# Altium footprint library Kingst51.PcbLib: 22 footprints (part 2 of 2)
Each footprint in its own frame and in the unit in brackets; x right, y up, seen from the top. Pads: shape width x height; smd on the part's side, far side on the other; paste and mask are expansions set on the pad; w line width, h text height; cw(c..) or ccw(c..) is an arc to the next point about the centre after c.
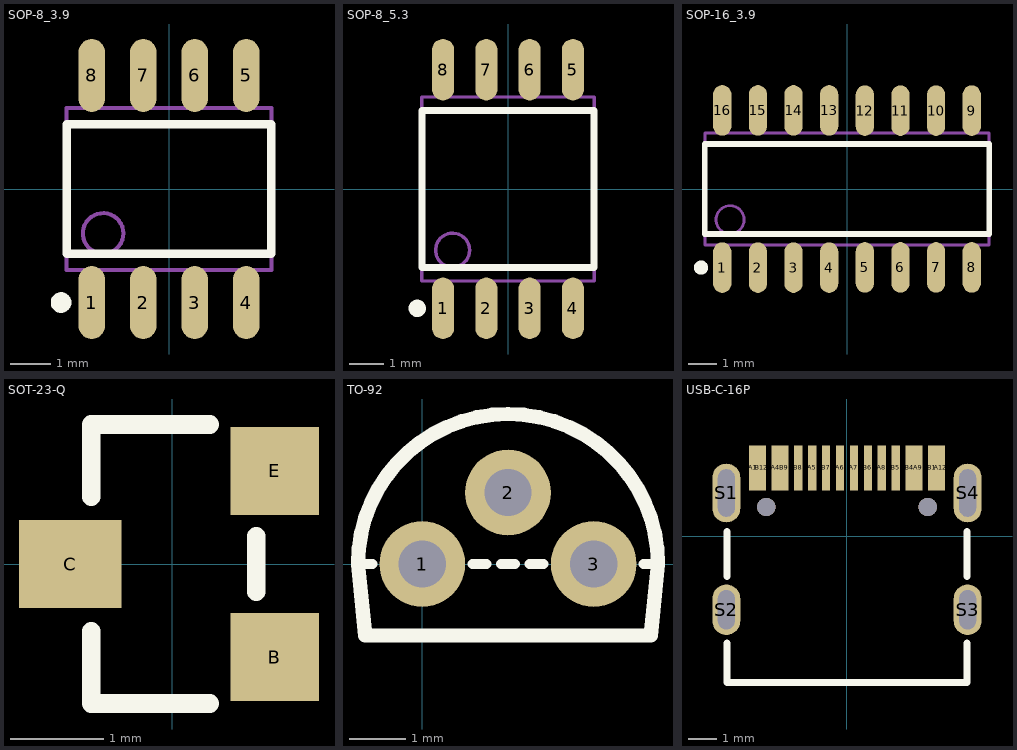
[diagram p1: the footprints below, top view; thin cyan lines are the x and y axes]

## SOP-8_3.9 [mm]
pads (8):
  oval 0.65x1.8 smd mask+0.025: 1(-1.905,-2.8) 2(-0.635,-2.8) 3(0.635,-2.8) 4(1.905,-2.8) 5(1.905,2.8) 6(0.635,2.8) 7(-0.635,2.8) 8(-1.905,2.8)
Top Overlay:
  circle w0.254: c-2.662,-2.8 r0.127
  lines w0.203: -2.525,-1.6 2.525,-1.6 2.525,1.6 -2.525,1.6 -2.525,-1.6
Mechanical 13:
  circle w0.1: c-1.625,-1.095 r0.5
  lines w0.1: -2.525,-1.995 2.525,-1.995 2.525,1.995 -2.525,1.995 -2.525,-1.995
3D body: height 1.75, standoff 0, extent -2.5,-3.1 2.5,3.1

## SOP-8_5.3 [mm]
pads (8):
  oval 0.65x1.8 smd mask+0.025: 1(-1.905,-3.5) 2(-0.635,-3.5) 3(0.635,-3.5) 4(1.905,-3.5) 5(1.905,3.5) 6(0.635,3.5) 7(-0.635,3.5) 8(-1.905,3.5)
Top Overlay:
  circle w0.254: c-2.662,-3.5 r0.127
  lines w0.203: -2.525,-2.3 2.525,-2.3 2.525,2.3 -2.525,2.3 ; -2.525,-2.3 -2.525,-2.3 ; -2.525,-2.3 -2.525,2.3 ; -2.525,2.3 -2.525,2.3
Mechanical 13:
  circle w0.1: c-1.625,-1.795 r0.5
  lines w0.1: -2.525,-2.7 -2.525,2.7 2.525,2.7 2.525,-2.7 -2.525,-2.7
3D body: height 2.58, standoff 0, extent -2.625,-4 2.625,4

## SOP-16_3.9 [mm]
pads (16):
  oval 0.65x1.8 smd mask+0.025: 1(-4.445,-2.8) 2(-3.175,-2.8) 3(-1.905,-2.8) 4(-0.635,-2.8) 5(0.635,-2.794) 6(1.905,-2.794) 7(3.175,-2.794) 8(4.445,-2.794) 9(4.445,2.794) 10(3.175,2.794) 11(1.905,2.794) 12(0.635,2.794) 13(-0.635,2.8) 14(-1.905,2.8) 15(-3.175,2.8) 16(-4.445,2.8)
Top Overlay:
  circle w0.254: c-5.202,-2.8 r0.127
  lines w0.203: -5.065,-1.6 -5.065,1.6 5.065,1.6 5.065,-1.6 -5.065,-1.6
Mechanical 13:
  circle w0.1: c-4.165,-1.095 r0.5
  lines w0.1: -5.065,-1.995 -5.065,1.995 5.065,1.995 5.065,-1.995 -5.065,-1.995
3D body: height 1.7, standoff 0, extent -5.1,-3 5.1,3

## SOT-23-Q [mm]
pads (3):
  rect 0.95x0.95 smd mask+0.025: B(1.1,-1) E(1.1,1)
  rect 1.1x0.95 smd mask+0.025: C(-1.1,0)
Top Overlay:
  lines w0.2: -0.875,-0.725 -0.875,-1.5 0.4,-1.5 ; -0.875,0.725 -0.875,1.5 0.4,1.5 ; 0.9,-0.3 0.9,0.3
3D body: height 1.2, standoff 0, extent -1.426,-1.45 1.374,1.45

## TO-92 [mil]
pads (3):
  round 60 hole 33: 1(0,0) 2(60,50) 3(120,0)
Top Overlay:
  lines w7: -45,0 -35,0 ; 35,0 45,0 ; 55,0 65,0 ; 75,0 85,0 ; 155,0 165,0
  lines w10: -45,0 cw(c60,0) 165,0 160,-50 -40,-50 -45,0

## USB-C-16P [mm]
pads (20):
  rect 0.3x1.6 smd mask+0.025: A1(-3.35,2.45) A4(-2.55,2.45) A5(-1.25,2.45) A6(-0.25,2.45) A7(0.25,2.45) A8(1.25,2.45) A9(2.55,2.45) A12(3.35,2.45) B1(3.05,2.45) B4(2.25,2.45) B5(1.75,2.45) B6(0.75,2.45) B7(-0.75,2.45) B8(-1.75,2.45) B9(-2.25,2.45) B12(-3.05,2.45)
  oval 1x2.1 hole 0.6 slot 1.7 at 90 deg mask+0.025: S1(-4.32,1.555) S4(4.32,1.555)
  oval 1x1.8 hole 0.6 slot 1.4 at 90 deg mask+0.025: S2(-4.32,-2.625) S3(4.32,-2.625)
via 2.89,1.055 diameter 0.65 hole 0.65
via -2.89,1.055 diameter 0.65 hole 0.65
Top Overlay:
  lines w0.254: -4.3,-3.825 -4.3,-5.225 4.3,-5.225 4.3,-3.825 ; -4.3,-1.425 -4.3,0.175 ; 4.3,-1.425 4.3,0.175
3D body: height 3.26, standoff -1, extent -4.479,-5.225 4.471,2.525